# EAGLE library part SA602 (library Radio)
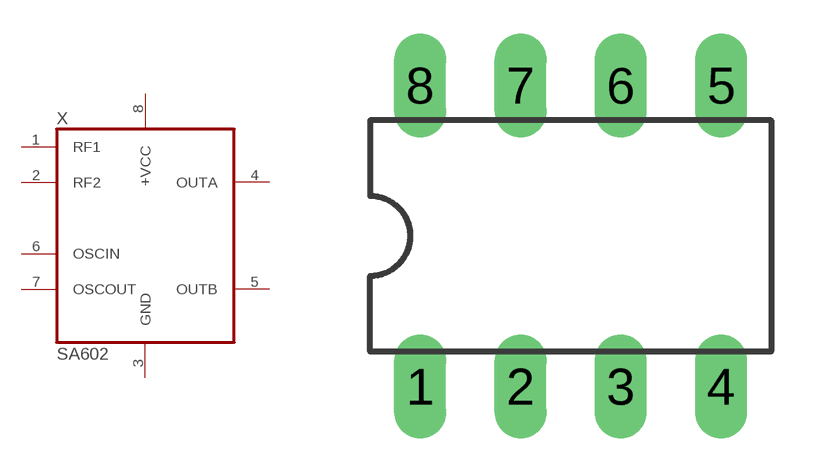
[diagram p0: symbol with the pads of DIL08; footprint DIL08]

Designator prefix X

## SA602  [DIL08]
1  RF1  in
2  RF2  in
3  GND  pwr
4  OUTA  out
5  OUTB  out
6  OSCIN  in
7  OSCOUT  out
8  +VCC  pwr

## Footprint DIL08 (pad centres in mm)
drill 0.813 pad 1.27 long: 1 -2.54,-3.81; 2 0,-3.81; 3 2.54,-3.81; 4 5.08,-3.81; 5 5.08,3.81; 6 2.54,3.81; 7 0,3.81; 8 -2.54,3.81